# Altium schematic symbol library Magnetic Sym Lib_back.SchLib: 1 symbol
Pins are listed as number, name and electrical type; pins without a type are passive.

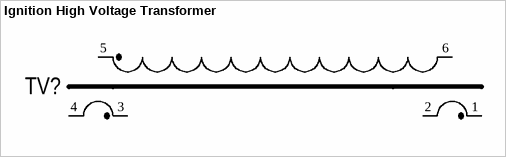
[diagram p0: symbol Ignition High Voltage Transformer]

## Ignition High Voltage Transformer
designator TV?  (value not drawn)  (net tie)
Manufacture: Self Made; PartNumber: B66291G0100X187 (Quantity 6 pcs); ComponentLink1Description: ELP 64/10/50 & ILP 64/5/50 Cores; ComponentLink1URL: https://www.tdk-electronics.tdk.com/inf/80/db/fer/elp_64_10_50.pdf
footprint HV Transformer ELP64 (Ignition Arc HV Transformer ELP64-core)
pins: 1 "Pin 1", 2 "Pin 2", 3 "Pin 3", 4 "Pin 4", 5 "Pin 9", 6 "Pin 10"